# Altium footprint library con-pulse.PCBLIB: 2 footprints
Each footprint in its own frame and in the unit in brackets; x right, y up, seen from the top. Pads: shape width x height; smd on the part's side, far side on the other; paste and mask are expansions set on the pad; w line width, h text height; cw(c..) or ccw(c..) is an arc to the next point about the centre after c.
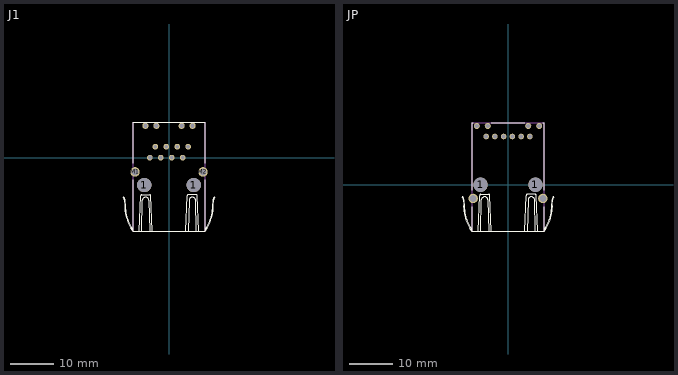
[diagram p0: the footprints below, top view; thin cyan lines are the x and y axes]

## J1 [mil]
pads (16):
  round 129.92 hole 129.92: 1(-225,-250) 1(225,-250)
  round 51.18 hole 35.43: 1(175,100) 2(125,0) 3(75,100) 4(25,0) 5(-25,100) 6(-75,0) 7(-125,100) 8(-175,0)
  round 56 hole 39.37: 9(215.16,290.16) 10(115.16,290.16) 11(-115.16,290.16) 12(-215.16,290.16)
  round 86 hole 62.99: M1(-310.04,-129.92) M2(310.04,-129.92)
Top Overlay:
  lines w8: -332.87,-651.99 cw(c-6.92,-433.95) -398.9,-422.28 ccw(c-883.38,-407.84) -398.9,-393.4 ccw(c-447.12,-394.84) -408.53,-365.89 -412.65,-360.39 ccw(c-414.47,-362.69) -416.78,-364.51 cw(c-462.9,-400.84) -404.4,-405.78 ccw(c-23.06,-438) -346.63,-642.36 -330.12,-668.5 ; -330.91,-200 -330.91,-671.26 330.91,-671.26 330.91,-200 ; -330.91,-50 -330.91,320.87 330.91,320.87 330.91,-50 ; -271.35,-666.66 -258.95,-348.48 cw(c-247.49,-348.92) -247.93,-337.46 -176.3,-337.46 cw(c-176.74,-348.92) -165.28,-348.48 -152.89,-666.66 ; -250.69,-666.66 -242.42,-388.43 cw(c-212.81,-389.31) -183.19,-388.43 -173.55,-668.04 ; 152.89,-666.66 165.28,-348.48 cw(c176.74,-348.92) 176.3,-337.46 247.93,-337.46 cw(c247.49,-348.92) 258.95,-348.48 271.35,-666.66 ; 173.55,-668.04 183.19,-388.43 cw(c212.81,-389.31) 242.42,-388.43 250.69,-666.66 ; 330.12,-668.5 346.63,-642.36 ccw(c23.06,-438) 404.4,-405.78 cw(c462.9,-400.84) 416.78,-364.51 ccw(c414.47,-362.69) 412.65,-360.39 408.53,-365.89 ccw(c447.12,-394.84) 398.9,-393.4 ccw(c883.38,-407.84) 398.9,-422.28 cw(c6.92,-433.95) 332.87,-651.99
Mechanical 16:
  lines w8: -330.91,-671.26 -330.91,320.87 ; 330.91,-671.26 330.91,320.87

## JP [mm]
pads (14):
  round 3.3 hole 3.3: 1(-6.35,0) 1(6.35,0)
  round 1.3 hole 0.9: 1(5.075,11.18) 2(3.045,11.18) 3(1.015,11.18) 4(-1.015,11.18) 5(-3.045,11.18) 6(-5.075,11.18)
  round 1.4 hole 1: 7(7.23,13.62) 8(4.69,13.62) 9(-4.69,13.62) 10(-7.23,13.62)
  round 2.184 hole 1.6: SH1(-8.065,-3.17) SH2(8.065,-3.17)
Top Overlay:
  lines w0.203: -8.455,-10.336 cw(c0.019,-4.735) -10.132,-4.376 ccw(c-22.438,-4.009) -10.132,-3.642 ccw(c-11.357,-3.679) -10.377,-2.944 -10.481,-2.804 ccw(c-10.528,-2.862) -10.586,-2.909 cw(c-11.758,-3.831) -10.272,-3.957 ccw(c-0.4,-4.838) -8.804,-10.091 -8.385,-10.755 ; -8.405,-5.08 -8.405,-10.825 8.405,-10.825 8.405,-5.08 ; -8.405,-1.27 -8.405,14.35 -8,14.35 ; -6.892,-10.708 -6.577,-2.501 cw(c-6.286,-2.513) -6.297,-2.221 -4.478,-2.221 cw(c-4.489,-2.513) -4.198,-2.501 -3.883,-10.708 ; -6.368,-10.708 -6.157,-3.516 cw(c-5.405,-3.539) -4.653,-3.516 -4.408,-10.743 ; -3.905,14.35 3.905,14.35 ; 3.883,-10.708 4.198,-2.501 cw(c4.489,-2.513) 4.478,-2.221 6.297,-2.221 cw(c6.286,-2.513) 6.577,-2.501 6.892,-10.708 ; 4.408,-10.743 4.653,-3.516 cw(c5.405,-3.539) 6.157,-3.516 6.368,-10.708 ; 8,14.35 8.405,14.35 8.405,-1.27 ; 8.385,-10.755 8.804,-10.091 ccw(c0.4,-4.838) 10.272,-3.957 cw(c11.758,-3.831) 10.586,-2.909 ccw(c10.528,-2.862) 10.481,-2.804 10.377,-2.944 ccw(c11.357,-3.679) 10.132,-3.642 ccw(c22.438,-4.009) 10.132,-4.376 cw(c-0.019,-4.735) 8.455,-10.336
Mechanical 16:
  lines w0.203: -8.405,-10.825 -8.405,14.35 8.405,14.35 8.405,-10.825